# EAGLE library part PCB_CHARGER (library EL_POTENCIA_LIBRERIA_VES2018)
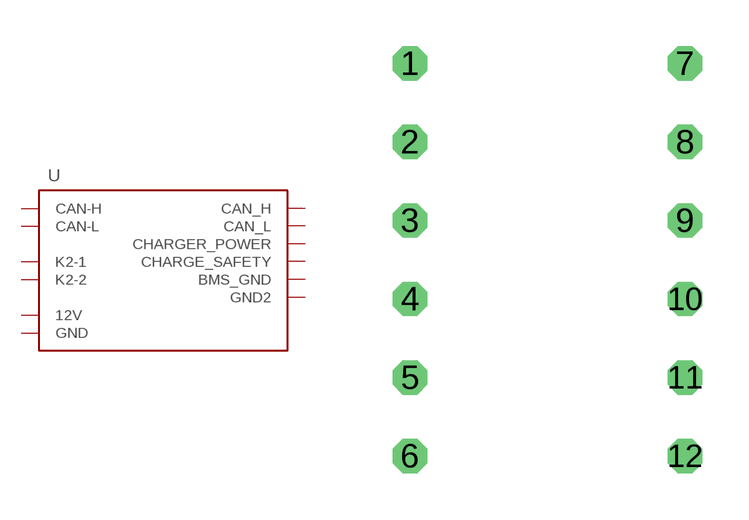
[diagram p10: symbol with the pads of PCB_CHARGER; footprint PCB_CHARGER]

Designator prefix -

## PCB_CHARGER  [PCB_CHARGER]
1  CAN-H
2  CAN-L
3  K2-1
4  K2-2
5  12V
6  GND
7  CAN_H
8  CAN_L
9  CHARGER_POWER
10  CHARGE_SAFETY
11  BMS_GND
12  GND2

## Footprint PCB_CHARGER (pad centres in mm)
drill 0.6 octagon: 1 -6.35,5.08; 2 -6.35,2.54; 3 -6.35,0; 4 -6.35,-2.54; 5 -6.35,-5.08; 6 -6.35,-7.62; 7 2.54,5.08; 8 2.54,2.54; 9 2.54,0; 10 2.54,-2.54; 11 2.54,-5.08; 12 2.54,-7.62